# EAGLE library part SN74LVC1G3157DCKR (library SamacSys_Parts)
SN74LVC1G3157DCKR, Analogue Switch Single SPDT, 3, 5V, 6-Pin, SC-70 Source: Datasheet <http://www.ti.com/lit/ds/symlink/sn74lvc1g3157.pdf>
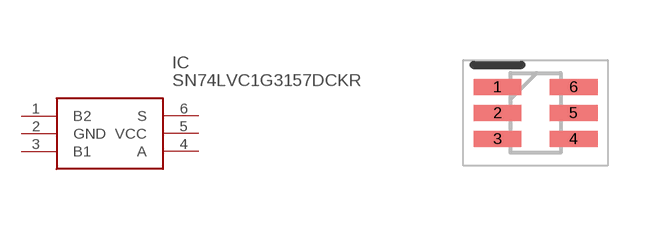
[diagram p18: symbol with the pads of SOT65P210X110-6N; footprint SOT65P210X110-6N]

Designator prefix IC

## SN74LVC1G3157DCKR (DESCRIPTION: SN74LVC1G3157DCKR, Analogue Switch Single SPDT, 3, 5V, 6-Pin, SC-70; HEIGHT: 1.1mm; MANUFACTURER_NAME: Texas Instruments; MANUFACTURER_PART_NUMBER: SN74LVC1G3157DCKR; MOUSER_PART_NUMBER: 595-SN74LVC1G3157DCK; MOUSER_PRICE-STOCK: https://www.mouser.co.uk/ProductDetail/Texas-Instruments/SN74LVC1G3157DCKR?qs=PVVDbbWpW3J21wbz0QWbxg%3D%3D)  [SOT65P210X110-6N]
1  B2
2  GND
3  B1
4  A
5  VCC
6  S

## Footprint SOT65P210X110-6N (pad centres in mm)
DCK (R-PDSO-G6)
smd 1.2 x 0.4: 1 -0.95,0.65; 2 -0.95,0; 3 -0.95,-0.65; 4 0.95,-0.65; 5 0.95,0; 6 0.95,0.65